# Altium footprint library IDCI_WifiNode_2_R00.PcbLib: 19 footprints (part 1 of 2)
Each footprint in its own frame and in the unit in brackets; x right, y up, seen from the top. Pads: shape width x height; smd on the part's side, far side on the other; paste and mask are expansions set on the pad; w line width, h text height; cw(c..) or ccw(c..) is an arc to the next point about the centre after c.
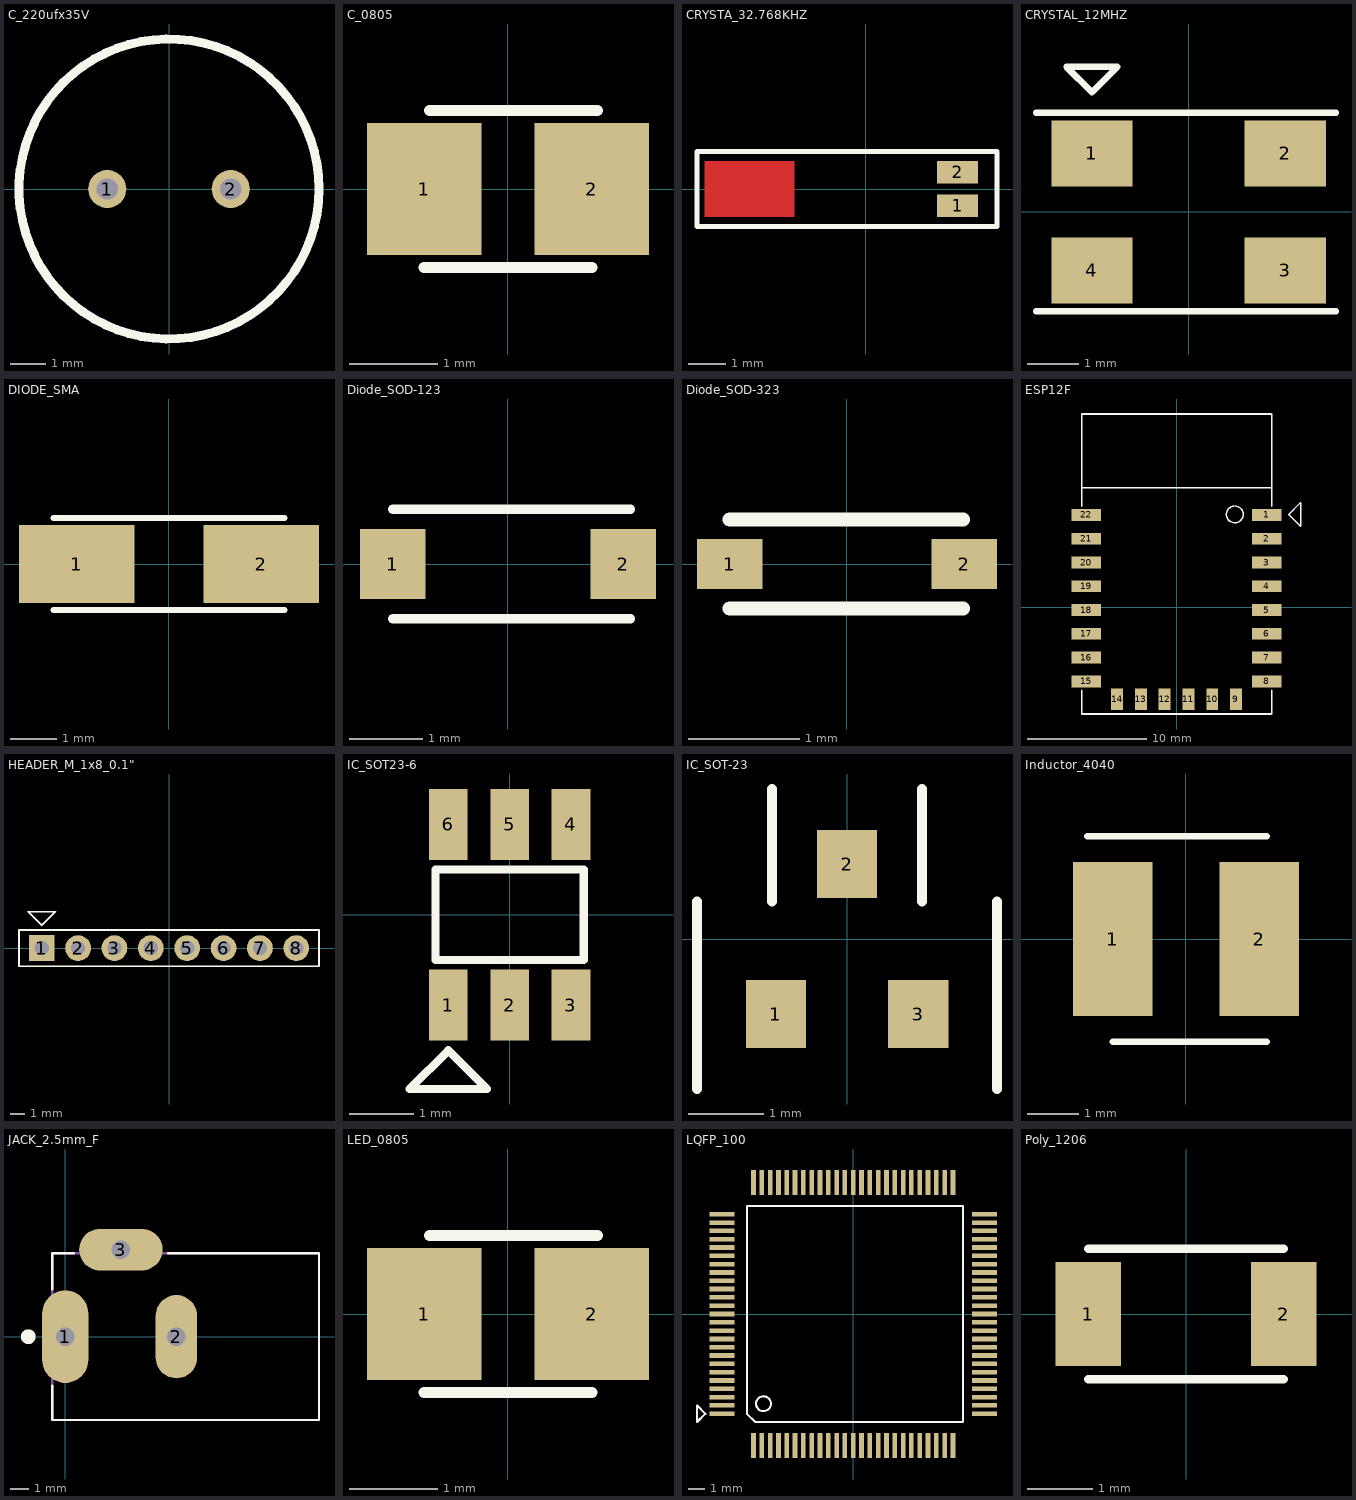
[diagram p0: the footprints below, top view; thin cyan lines are the x and y axes]

## C_220ufx35V [mm]
pads (2):
  round 1.08 hole 0.6: 1(-1.75,0) 2(1.75,0)
Top Overlay:
  circle w0.254: c0,0 r4.25

## C_0805 [mm]
pads (2):
  rect 1.3x1.5 smd: 1(-0.95,0) 2(0.95,0)
Top Overlay:
  lines w0.127: -0.953,-0.889 -0.476,-0.889 0.476,-0.889 0.953,-0.889 ; -0.889,0.889 1.016,0.889
3D body: height 0.25, standoff 0, extent -0.968,-0.889 0.968,0.889

## CRYSTA_32.768KHZ [mm]
pads (2):
  rect 1.1x0.6 smd: 1(2.45,-0.45) 2(2.45,0.45)
Top Layer:
  rectangle: -4.3,-0.75 -1.9,0.75
  region: -1.3,0.85
  region: -0.5,-0.35
Top Overlay:
  lines w0.127: -4.5,-1 3.5,-1 3.5,1 -4.5,1 -4.5,-1

## CRYSTAL_12MHZ [mm]
pads (4):
  rect 1.6x1.3 smd: 1(-1.9,1.15) 2(1.9,1.15) 3(1.9,-1.15) 4(-1.9,-1.15)
Top Overlay:
  lines w0.127: -3,-1.95 2.9,-1.95 ; -3,1.95 2.9,1.95 ; -2.4,2.85 -1.4,2.85 -1.9,2.35 -2.4,2.85

## DIODE_SMA [mm]
pads (2):
  rect 2.5x1.7 smd: 1(-2,0) 2(2,0)
Top Overlay:
  lines w0.127: -2.5,-1 2.5,-1 ; -2.5,1 2.5,1

## Diode_SOD-123 [mm]
pads (2):
  rect 0.9x0.95 smd: 1(-1.575,0) 2(1.575,0)
Top Overlay:
  lines w0.127: -1.575,-0.75 1.675,-0.75 ; -1.575,0.75 1.675,0.75

## Diode_SOD-323 [mm]
pads (2):
  rect 0.59x0.45 smd: 1(-1.055,0) 2(1.055,0)
Top Overlay:
  lines w0.127: -1.055,-0.4 1.045,-0.4 ; -1.055,0.4 1.045,0.4

## ESP12F [mm]
pads (22):
  rect 2.5x1 smd: 1(7.6,7.75) 2(7.6,5.75) 3(7.6,3.75) 4(7.6,1.75) 5(7.6,-0.25) 6(7.6,-2.25) 7(7.6,-4.25) 8(7.6,-6.25) 15(-7.6,-6.25) 16(-7.6,-4.25) 17(-7.6,-2.25) 18(-7.6,-0.25) 19(-7.6,1.75) 20(-7.6,3.75) 21(-7.6,5.75) 22(-7.6,7.75)
  rect 1x1.8 smd: 9(5,-7.75) 10(3,-7.75) 11(1,-7.75) 12(-1,-7.75) 13(-3,-7.75) 14(-5,-7.75)
Top Overlay:
  circle w0.127: c4.9,7.8 r0.71
  lines w0.127: -8,-7 -8,-9 8,-9 8,-7 ; -8,8.5 -8,10.05 ; 8,8.5 8,10.05 ; -8,10.05 8,10.05 ; -8,10.05 -8,16.25 -5,16.25 8,16.25 8,10.05 ; 9.44,7.8 10.44,6.8 10.44,8.8 9.44,7.8

## HEADER_M_1x8_0.1" [mm]
pads (8):
  rect 1.8x1.8 hole 1: 1(-8.89,0)
  round 1.8 hole 1: 2(-6.35,0) 3(-3.81,0) 4(-1.27,0) 5(1.27,0) 6(3.81,0) 7(6.35,0) 8(8.89,0)
Top Overlay:
  lines w0.127: -10.477,-1.27 -10.477,1.27 10.477,1.27 10.477,-1.27 -10.477,-1.27 ; -9.842,2.54 -8.89,1.587 -7.938,2.54 -9.842,2.54

## IC_SOT23-6 [mm]
pads (6):
  rect 0.6x1.1 smd: 1(-0.95,-1.4) 2(0,-1.4) 3(0.95,-1.4) 4(0.95,1.4) 5(0,1.4) 6(-0.95,1.4)
Top Overlay:
  lines w0.127: -1.55,-2.7 -0.95,-2.1 -0.35,-2.7 -0.95,-2.7 -1.55,-2.7 ; -1.15,-0.7 -1.15,0.7 1.15,0.7 1.15,-0.7 -1.15,-0.7

## IC_SOT-23 [mm]
pads (3):
  rect 0.8x0.9 smd: 1(-0.95,-1) 2(0,1) 3(0.95,-1)
Top Overlay:
  lines w0.127: -2,-2 -2,0.5 ; -1,0.5 -1,1.5 -1,2 ; 1,0.5 1,2 ; 2,-2 2,0.5

## Inductor_4040 [mm]
pads (2):
  rect 1.55x3 smd: 1(-1.425,0) 2(1.425,0)
Top Overlay:
  lines w0.127: -1.925,2 1.575,2 ; -1.425,-2 1.575,-2

## JACK_2.5mm_F [mm]
pads (3):
  oval 2.5x5 hole 1 square: 1(0,0)
  oval 2.25x4.5 hole 1 square: 2(6,0)
  oval 4.5x2.25 hole 1 square: 3(3,4.7)
Top Overlay:
  circle w0.4: c-2,0 r0.2
  lines w0.127: -0.7,-2.65 -0.7,-4.5 13.7,-4.5 13.7,4.5 5.55,4.5 ; -0.7,2.55 -0.7,4.5 0.45,4.5
Mechanical 13:
  lines w0.127: -0.7,-4.5 -0.7,4.5 13.7,4.5 13.7,-4.5 -0.7,-4.5

## LED_0805 [mm]
pads (2):
  rect 1.3x1.5 smd: 1(-0.95,0) 2(0.95,0)
Top Overlay:
  lines w0.127: -0.953,-0.889 -0.476,-0.889 0.476,-0.889 0.953,-0.889 ; -0.889,0.889 1.016,0.889
3D body: height 0.25, standoff 0, extent -0.968,-0.889 0.968,0.889

## LQFP_100 [mm]
pads (100):
  rect 1.5x0.28 smd: 1(-7.9,-6) 2(-7.9,-5.5) 3(-7.9,-5) 4(-7.9,-4.5) 5(-7.9,-4) 6(-7.9,-3.5) 7(-7.9,-3) 8(-7.9,-2.5) 9(-7.9,-2) 10(-7.9,-1.5) 11(-7.9,-1) 12(-7.9,-0.5) 13(-7.9,0) 14(-7.9,0.5) 15(-7.9,1) 16(-7.9,1.5) 17(-7.9,2) 18(-7.9,2.5) 19(-7.9,3) 20(-7.9,3.5) 21(-7.9,4) 22(-7.9,4.5) 23(-7.9,5) 24(-7.9,5.5) 25(-7.9,6) 51(7.9,6) 52(7.9,5.5) 53(7.9,5) 54(7.9,4.5) 55(7.9,4) 56(7.9,3.5) 57(7.9,3) 58(7.9,2.5) 59(7.9,2) 60(7.9,1.5) 61(7.9,1) 62(7.9,0.5) 63(7.9,0) 64(7.9,-0.5) 65(7.9,-1) 66(7.9,-1.5) 67(7.9,-2) 68(7.9,-2.5) 69(7.9,-3) 70(7.9,-3.5) 71(7.9,-4) 72(7.9,-4.5) 73(7.9,-5) 74(7.9,-5.5) 75(7.9,-6)
  rect 0.28x1.5 smd: 26(-6,7.9) 27(-5.5,7.9) 28(-5,7.9) 29(-4.5,7.9) 30(-4,7.9) 31(-3.5,7.9) 32(-3,7.9) 33(-2.5,7.9) 34(-2,7.9) 35(-1.5,7.9) 36(-1,7.9) 37(-0.5,7.9) 38(0,7.9) 39(0.5,7.9) 40(1,7.9) 41(1.5,7.9) 42(2,7.9) 43(2.5,7.9) 44(3,7.9) 45(3.5,7.9) 46(4,7.9) 47(4.5,7.9) 48(5,7.9) 49(5.5,7.9) 50(6,7.9) 76(6,-7.9) 77(5.5,-7.9) 78(5,-7.9) 79(4.5,-7.9) 80(4,-7.9) 81(3.5,-7.9) 82(3,-7.9) 83(2.5,-7.9) 84(2,-7.9) 85(1.5,-7.9) 86(1,-7.9) 87(0.5,-7.9) 88(0,-7.9) 89(-0.5,-7.9) 90(-1,-7.9) 91(-1.5,-7.9) 92(-2,-7.9) 93(-2.5,-7.9) 94(-3,-7.9) 95(-3.5,-7.9) 96(-4,-7.9) 97(-4.5,-7.9) 98(-5,-7.9) 99(-5.5,-7.9) 100(-6,-7.9)
Top Overlay:
  circle w0.127: c-5.397,-5.397 r0.449
  lines w0.127: -6.4,-6 -6.4,-6 ; -6.4,-6 -5.9,-6.5 6.6,-6.5 6.6,6.5 -6.4,6.5 ; -6.4,-6 -6.4,6.5 ; -6.4,6.5 -6.4,6.5 ; -9.4,-6.5 -8.9,-6 -9.4,-5.5 -9.4,-6.5

## Poly_1206 [mm]
pads (2):
  rect 1x1.6 smd: 1(-1.5,0) 2(1.5,0)
Top Overlay:
  lines w0.127: -1.5,-1 1.5,-1 ; -1.5,1 1.5,1